# Altium footprint library L78M05CDT.PcbLib: 1 footprints
Each footprint in its own frame and in the unit in brackets; x right, y up, seen from the top. Pads: shape width x height; smd on the part's side, far side on the other; paste and mask are expansions set on the pad; w line width, h text height; cw(c..) or ccw(c..) is an arc to the next point about the centre after c.
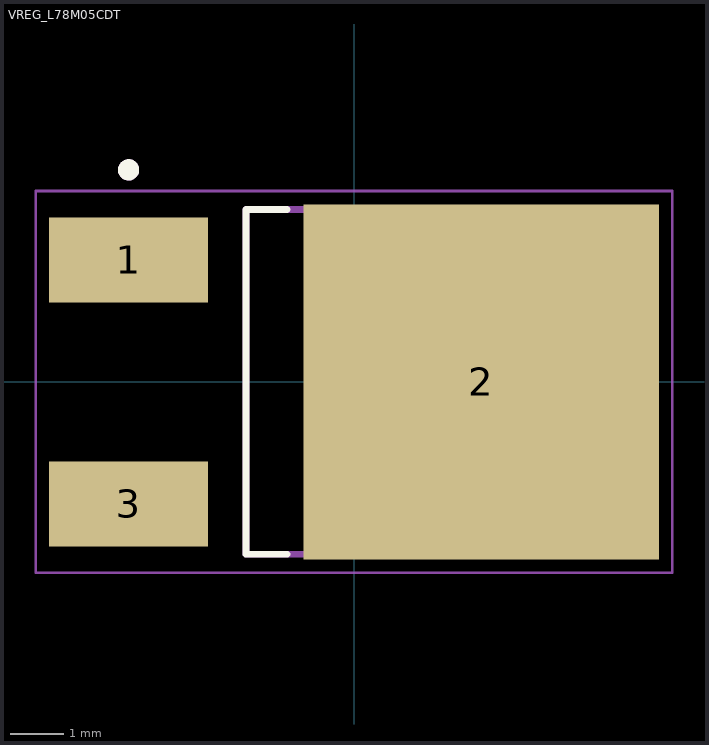
[diagram p0: the footprint, top view; thin cyan lines are the x and y axes]

## VREG_L78M05CDT [mm]
pads (3):
  rect 3x1.6 smd: 1(-4.25,2.3) 3(-4.25,-2.3)
  rect 6.7x6.7 smd paste-2.645: 2(2.4,0)
Top Overlay:
  circle w0.2: c-4.25,4 r0.1
  lines w0.127: -1.264,-3.25 -2.037,-3.25 -2.037,3.25 -1.264,3.25
Mechanical 13:
  circle w0.2: c-4.25,4 r0.1
  lines w0.127: -2.037,-3.25 -2.037,3.25 4.062,3.25 4.062,-3.25 -2.037,-3.25
Mechanical 15:
  lines w0.05: -6,-3.6 6,-3.6 6,3.6 -6,3.6 -6,-3.6